# Altium footprint library PcbLib2.PcbLib: 35 footprints (part 1 of 3)
Each footprint in its own frame and in the unit in brackets; x right, y up, seen from the top. Pads: shape width x height; smd on the part's side, far side on the other; paste and mask are expansions set on the pad; w line width, h text height; cw(c..) or ccw(c..) is an arc to the next point about the centre after c.
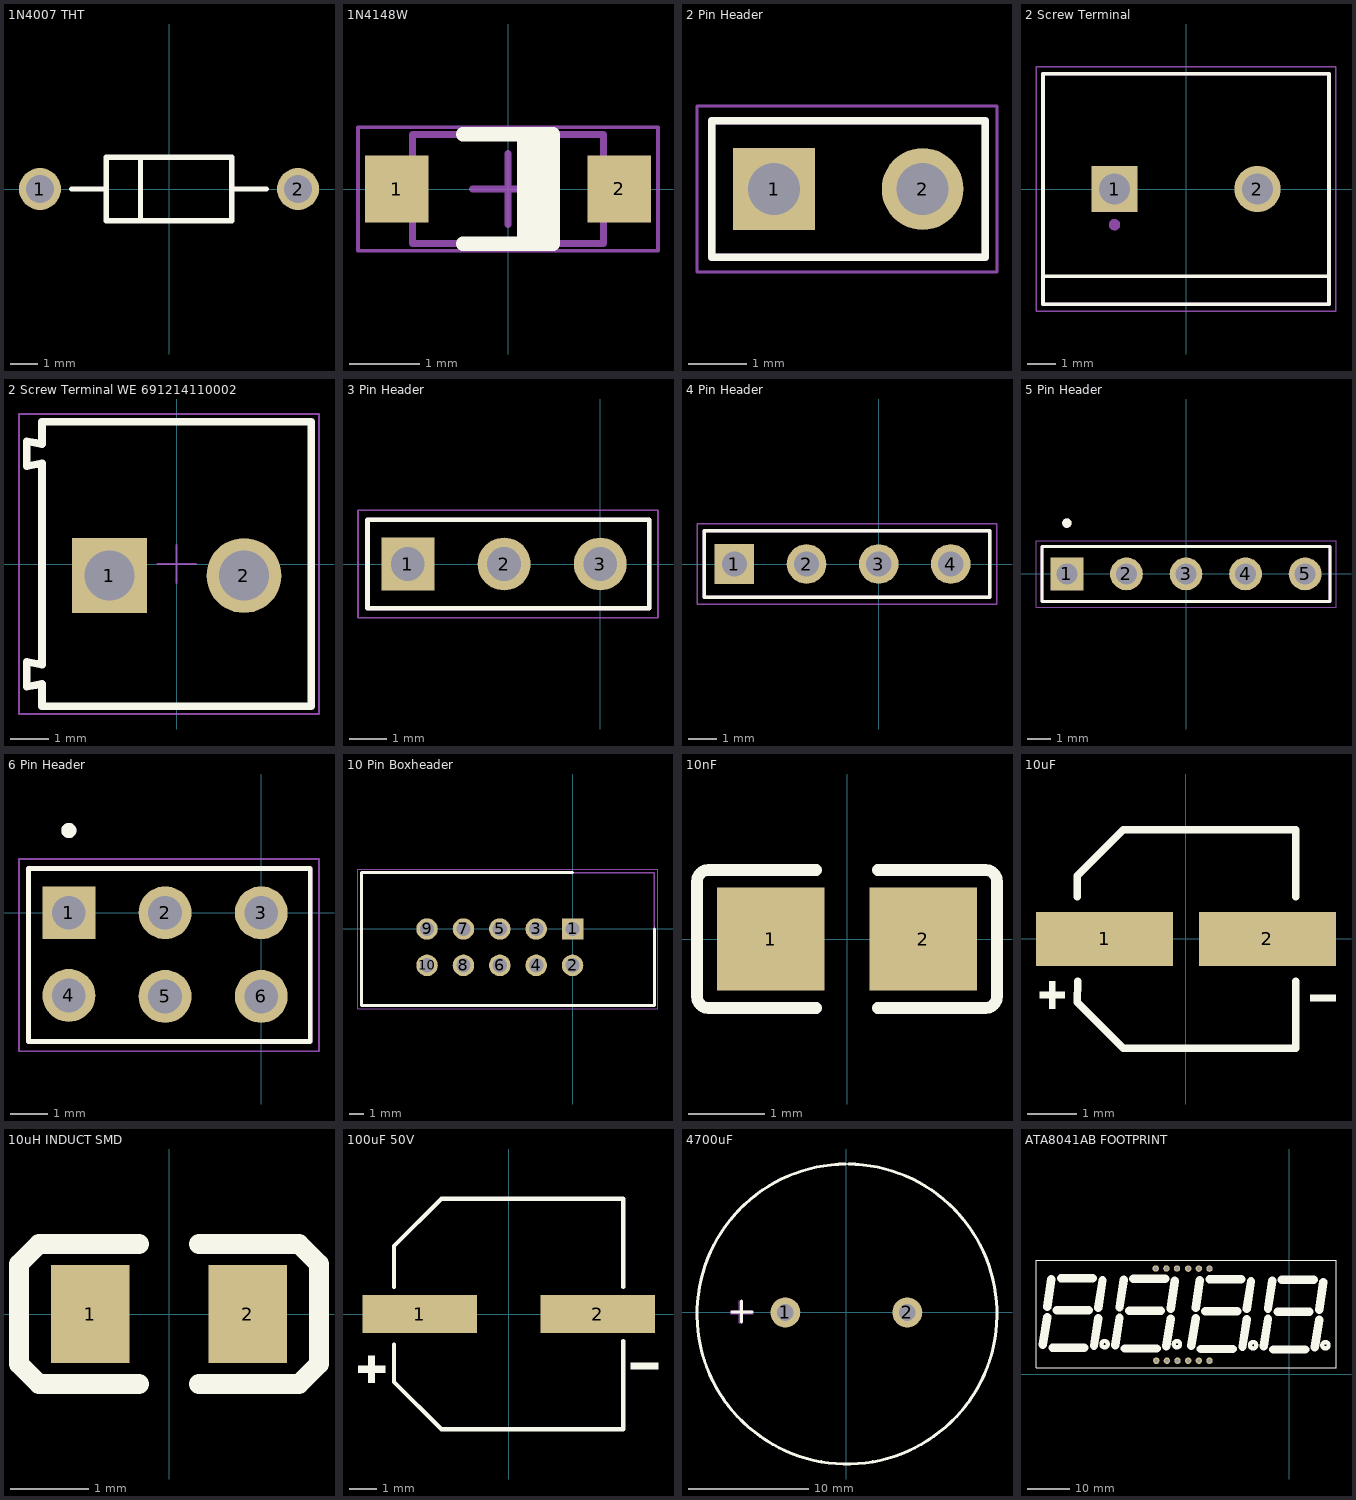
[diagram p0: the footprints below, top view; thin cyan lines are the x and y axes]

## 1N4007 THT [mm] "AXIAL, 2-Leads, Diameter 2.35mm"
height 2.35
pads (2):
  round 1.55 hole 1.05: 1(-4.77,0) 2(4.77,0)
Top Overlay:
  lines w0.2: -3.595,0 -2.325,0 ; -1.055,-1.175 -1.055,1.175 ; 2.325,0 3.595,0 ; -2.325,-1.175 -2.325,1.175 2.325,1.175 2.325,-1.175 -2.325,-1.175

## 1N4148W [mm] "SOD123, 2-Leads, Body 2.7x1.55mm, Height 1.45mm"
height 1.45
pads (2):
  rect 0.9x0.95 smd: 1(-1.575,0) 2(1.575,0)
Top Overlay:
  rectangle: 0.127,-0.825 0.635,0.762
  lines w0.2: -0.635,-0.775 0.635,-0.775 0.635,0.775 -0.635,0.775
Mechanical 13:
  lines w0.1: -1.35,-0.775 -1.35,0.775 1.35,0.775 1.35,-0.775 -1.35,-0.775
Mechanical 15:
  lines w0.05: -2.125,-0.875 -2.125,0.875 2.125,0.875 2.125,-0.875 -2.125,-0.875
  lines w0.1: -0.5,0 0.5,0 ; 0,-0.5 0,0.5
3D body: height 1.45, standoff 0, extent -1.35,-0.775 1.35,0.775

## 2 Pin Header [mil]
pads (2):
  rect 55x55 hole 35: 1(-265,-164)
  round 55 hole 35: 2(-165,-164)
Top Overlay:
  lines w5: -307.01,-210.06 -307.01,-117.94 -123,-117.94 -123,-210.06 -307.01,-210.06
Mechanical 13:
  lines w5: -307.01,-210.06 -307.01,-117.94 -123,-117.94 -123,-210.06 -307.01,-210.06
Mechanical 15:
  lines w1.97: -316.85,-219.91 -316.85,-108.09 -115,-108.09 -115,-219.91 -316.85,-219.91
3D body "2 Pin Header.step": height 326.77, standoff -125.98, extent -313,-207 -116.15,-116.45

## 2 Screw Terminal [mm]
pads (2):
  rect 1.65x1.65 / inner round 1.65 / far side rect 1.65x1.65 hole 1.1: 1(-2.54,0)
  round 1.65 hole 1.1: 2(2.54,0)
Top Overlay:
  lines w0.127: -5.08,-3.1 -5.08,-4.1 5.08,-4.1 5.08,-3.1 ; -5.08,-3.1 -5.08,4.1 5.08,4.1 5.08,-3.1 ; -5.08,-3.1 5.08,-3.1
Mechanical 13:
  circle w0.2: c-2.54,-1.27 r0.1
  lines w0.127: -5.08,-4.1 5.08,-4.1 5.08,4.1 -5.08,4.1 -5.08,-4.1
Mechanical 15:
  lines w0.05: -5.33,-4.35 -5.33,4.35 5.33,4.35 5.33,-4.35 -5.33,-4.35
3D body "step_temp.STEP": height 7.25, standoff -6.25, extent -5.385,-3.821 5.375,4.379

## 2 Screw Terminal WE 691214110002 [mm] "3.50 mm Horizontal Entry Modular, 2p"
height 8.5
pads (2):
  rect 1.95x1.95 hole 1.3: 1(-1.75,-0.3)
  round 1.95 hole 1.3: 2(1.75,-0.3)
Top Overlay:
  lines w0.2: -3.9,-3.195 -3.5,-3.12 -3.5,-3.7 3.5,-3.7 3.5,3.7 -3.5,3.7 -3.5,3.12 -3.9,3.195 -3.9,2.545 -3.5,2.62 -3.5,-2.62 -3.9,-2.545 -3.9,-3.195
Mechanical 13:
  lines w0.1: -3.9,-3.195 -3.9,-2.545 -3.5,-2.62 -3.5,2.62 -3.9,2.545 -3.9,3.195 -3.5,3.12 -3.5,3.7 3.5,3.7 3.5,-3.7 -3.5,-3.7 -3.5,-3.12 -3.9,-3.195
Mechanical 15:
  lines w0.05: -0.5,0 0.5,0 ; 0,-0.5 0,0.5 ; -4.1,-3.9 3.7,-3.9 3.7,3.9 -4.1,3.9 -4.1,-3.9
3D body "691214110002.stp": height 8.55, standoff -3.65, extent -3.95,-3.7 3.5,3.7

## 3 Pin Header [mil]
pads (3):
  rect 55x55 hole 35: 1(-200,0)
  round 55 hole 35: 2(-100,0) 3(0,0)
Top Overlay:
  lines w5: -242.01,-46.06 51,-46.06 51,46.06 -242.01,46.06 -242.01,-46.06
Mechanical 13:
  lines w5: -242.01,-46.06 51,-46.06 51,46.06 -242.01,46.06 -242.01,-46.06
Mechanical 15:
  lines w1.97: -251.85,-55.91 60,-55.91 60,55.91 -251.85,55.91 -251.85,-55.91
3D body "3 Pin Header.step": height 326.77, standoff -125.98, extent -242,-45 53.28,45.55

## 4 Pin Header [mil]
pads (4):
  rect 55x55 hole 35: 1(-200,0)
  round 55 hole 35: 2(-100,0) 3(0,0) 4(100,0)
Top Overlay:
  lines w5: -242.01,-46.06 154,-46.06 154,46.06 -242.01,46.06 -242.01,-46.06
Mechanical 13:
  lines w5: -242.01,-46.06 154,-46.06 154,46.06 -242.01,46.06 -242.01,-46.06
Mechanical 15:
  lines w1.97: -251.85,-55.91 164,-55.91 164,55.91 -251.85,55.91 -251.85,-55.91
3D body "4 Pin Header Single Row.step": height 326.77, standoff -125.98, extent -241,-45 152.7,45.55

## 5 Pin Header [mil]
pads (5):
  rect 55x55 hole 35: 1(-200,0)
  round 55 hole 35: 2(-100,0) 3(0,0) 4(100,0) 5(200,0)
Top Overlay:
  circle w7.87: c-200,85.43 r3.94
  lines w5: -242.01,-46.06 242.01,-46.06 242.01,46.06 -242.01,46.06 -242.01,-46.06
Mechanical 13:
  circle w7.87: c-200,85.43 r3.94
  lines w5: -242.01,-46.06 242.01,-46.06 242.01,46.06 -242.01,46.06 -242.01,-46.06
Mechanical 15:
  lines w1.97: -251.85,-55.91 251.85,-55.91 251.85,55.91 -251.85,55.91 -251.85,-55.91
3D body "5 Pin Header Single Row.step": height 326.77, standoff -125.98, extent -246,-45 246.13,45.55

## 6 Pin Header [mil]
pads (6):
  rect 55x55 hole 35: 1(-200,0)
  round 55 hole 35: 2(-100,0) 3(0,0) 4(-200,-86) 5(-100,-87) 6(0,-87)
Top Overlay:
  circle w7.87: c-200,85.43 r3.94
  lines w5: -242.01,-134 -242.01,46.06 51,46.06 51,-134 -242.01,-134
Mechanical 13:
  circle w7.87: c-200,85.43 r3.94
  lines w5: -242.01,-134 -242.01,46.06 51,46.06 51,-134 -242.01,-134
Mechanical 15:
  lines w1.97: -251.85,-144 -251.85,55.91 60,55.91 60,-144 -251.85,-144
3D body "6 Pin Header Double Row.step": height 354.33, standoff -118.11, extent -241.28,-139 54,49.98

## 10 Pin Boxheader [mm]
pads (10):
  rect 1.5x1.5 / inner round 1.5 / far side rect 1.5x1.5 hole 1: 1(0,0)
  round 1.5 hole 1: 2(0,-2.54) 3(-2.54,0) 4(-2.54,-2.54) 5(-5.08,0) 6(-5.08,-2.54) 7(-7.62,0) 8(-7.62,-2.54) 9(-10.16,0) 10(-10.16,-2.54)
Top Overlay:
  lines w0.2: 0,3.937 -14.732,3.937 -14.732,-5.334 5.715,-5.334 5.715,0
Mechanical 15:
  lines w0.1: -14.732,-5.334 5.715,-5.334 5.715,3.937 -14.732,3.937 -14.732,-5.334
Bottom Assembly:
  lines w0.05: -14.982,-5.584 5.965,-5.584 5.965,4.187 -14.982,4.187 -14.982,-5.584
3D body "5104338-1.stp": height 5.8, standoff -4.65, extent -10,-3.376 10,3.376

## 10nF [mm]
pads (2):
  rect 1.41x1.35 smd: 1(-1,0) 2(1,0)
Top Overlay:
  lines w0.152: -0.401,-0.904 -1.811,-0.904 cw(c-1.811,-0.751) -1.964,-0.751 -1.964,0.751 cw(c-1.811,0.751) -1.811,0.904 -0.401,0.904 ; 0.401,-0.904 1.811,-0.904 ccw(c1.811,-0.751) 1.964,-0.751 1.964,0.751 ccw(c1.811,0.751) 1.811,0.904 0.401,0.904
Top Paste:
  region: -1.675,-0.62 -1.675,0.66 -1.625,0.71 -0.475,0.71 -0.425,0.66 -0.42,0.25 -0.87,0.25 -0.87,-0.2 -0.43,-0.2 -0.425,-0.62 -0.475,-0.67 -1.625,-0.67
  region: 0.475,-0.62 0.475,-0.2 0.92,-0.2 0.92,0.25 0.48,0.25 0.475,0.66 0.525,0.71 1.675,0.71 1.725,0.66 1.725,-0.62 1.675,-0.67 0.525,-0.67

## 10uF [mm]
pads (2):
  rect 2.8x1.1 smd: 1(-1.66,0) 2(1.66,0)
Top Overlay:
  region: -2.794,-0.864 -2.794,-1.422 -2.665,-1.422 -2.665,-0.864
  region: -2.987,-1.077 -2.987,-1.206 -2.471,-1.206 -2.471,-1.077
  region: 3.052,-1.143 3.052,-1.272 2.536,-1.272 2.536,-1.143
  lines w0.152: -2.216,0.864 -2.217,1.29 -1.28,2.225 2.235,2.225 2.235,0.864 ; -2.212,-0.864 -2.217,-1.29 -1.28,-2.226 2.236,-2.226 2.236,-0.864
Mechanical 15:
  region: -1.818,0.43 -1.818,-0.43 -1.689,-0.43 -1.689,0.43
  region: -2.011,0.064 -2.011,-0.065 -1.495,-0.065 -1.495,0.064
  region: 2.031,0.064 2.031,-0.065 1.515,-0.065 1.515,0.064

## 10uH INDUCT SMD [mm]
pads (2):
  rect 1x1.25 smd: 1(-1,0) 2(1,0)
Top Overlay:
  lines w0.254: -0.381,-0.889 -1.651,-0.889 -1.905,-0.635 -1.905,0.635 -1.651,0.889 -0.381,0.889 ; 0.381,-0.889 1.651,-0.889 1.905,-0.635 1.905,0.635 1.651,0.889 0.381,0.889

## 100uF 50V [mm]
pads (2):
  rect 4.2x1.4 smd: 1(-3.267,0) 2(3.267,0)
Top Overlay:
  region: -5.151,-1.537 -5.151,-2.527 -4.902,-2.527 -4.902,-1.537
  region: -5.525,-1.899 -5.525,-2.148 -4.529,-2.148 -4.529,-1.899
  region: 5.476,-1.783 5.476,-2.032 4.48,-2.032 4.48,-1.783
  lines w0.152: -4.201,-1.118 -4.201,-2.49 -2.465,-4.226 4.201,-4.226 4.201,-0.991 ; -4.201,0.991 -4.201,2.49 -2.465,4.226 4.201,4.226 4.201,0.991
Mechanical 15:
  region: -3.876,0.125 -3.876,-0.125 -2.88,-0.125 -2.88,0.125
  region: 3.876,0.125 3.876,-0.125 2.88,-0.125 2.88,0.125

## 4700uF [mm]
pads (2):
  round 2.5 hole 1.4: 1(-5.08,0) 2(5.08,0)
Top Overlay:
  lines w0.254: -9.525,0.051 -7.849,0.051 ; -8.738,-0.787 -8.738,0.94 ; -0.051,12.372 ccw(c0.058,-0.127) 0.168,12.372
Mechanical 15:
  region: -9.65,0.15 -7.75,0.15 -7.75,-0.15 -9.65,-0.15
  region: -8.981,-0.906 -8.981,0.994 -8.681,0.994 -8.681,-0.906

## ATA8041AB FOOTPRINT [mil]
pads (12):
  round 60 hole 36: 1(-1250.07,128.69) 2(-1150.07,128.69) 3(-1050.07,128.69) 4(-950.07,128.69) 5(-850.07,128.69) 6(-750.07,128.69) 7(-1255.07,994.83) 8(-1155.07,994.83) 9(-1055.07,994.83) 10(-950.07,993.69) 11(-850.07,993.69) 12(-750.07,993.69)
Top Overlay:
  circle w39.37: c339.93,273.69 r29.62
  circle w39.37: c-340.07,273.69 r30
  circle w39.37: c-1055.26,283.5 r29.62
  circle w39.37: c-1735.26,283.5 r30
  lines w10: -2379.88,61.31 -2379.88,1073.12 439.02,1073.12 439.02,61.31 -2379.88,61.31
  lines w78.74: -2315.26,278.5 -2275.26,538.5 ; -2275.26,633.5 -2235.26,893.5 ; -2225.26,248.5 -1925.26,248.5 ; -2185.26,603.5 -1885.26,603.5 ; -2145.26,903.5 -1845.26,903.5 ; -1835.26,268.5 -1795.26,528.5 ; -1795.26,623.5 -1755.26,883.5 ; -1634.88,273.12 -1594.88,533.12 ; -1594.88,628.12 -1554.88,888.12 ; -1544.88,243.12 -1244.88,243.12 ; -1504.88,598.12 -1204.88,598.12 ; -1464.88,898.12 -1164.88,898.12 ; -1154.88,263.12 -1114.88,523.12 ; -1114.88,618.12 -1074.88,878.12 ; -920.07,268.69 -880.07,528.69 ; -880.07,623.69 -840.07,883.69 ; -830.07,238.69 -530.07,238.69 ; -790.07,593.69 -490.07,593.69 ; -750.07,893.69 -450.07,893.69 ; -440.07,258.69 -400.07,518.69 ; -400.07,613.69 -360.07,873.69 ; -239.7,263.31 -199.7,523.31 ; -199.7,618.31 -159.7,878.31 ; -149.7,233.31 150.3,233.31 ; -109.7,588.31 190.3,588.31 ; -69.7,888.31 230.3,888.31 ; 240.3,253.31 280.3,513.31 ; 280.3,608.31 320.3,868.31